# EAGLE library part MOLEX-6-2-H-26013116 (library LARS-molex)
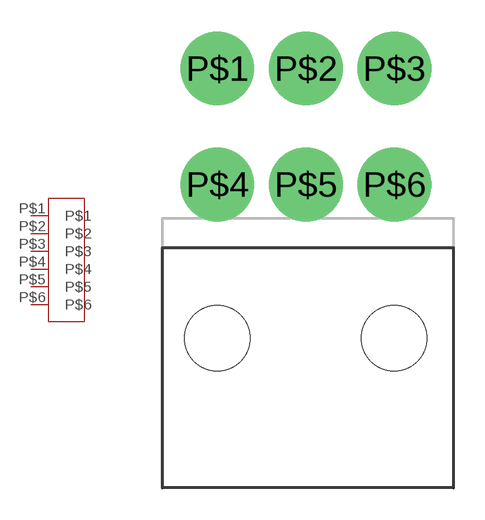
[diagram p0: symbol with the pads of 6-2-H; footprint 6-2-H]

Designator prefix -

## MOLEX-6-2-H-26013116  [6-2-H]
P$1  P$1
P$2  P$2
P$3  P$3
P$4  P$4
P$5  P$5
P$6  P$6

## Footprint 6-2-H (pad centres in mm)
drill 2 pad 3.5: P$1 0,5.5; P$2 4.2,5.5; P$3 8.4,5.5; P$4 0,0; P$5 4.2,0; P$6 8.4,0
hole 3.1 at 0,-7.3
hole 3.1 at 8.4,-7.3